# EAGLE library part ERM8-040-01-D-RA (library con-samtec-er8)
ERM8 Series - Male Right Angle Edge Mount
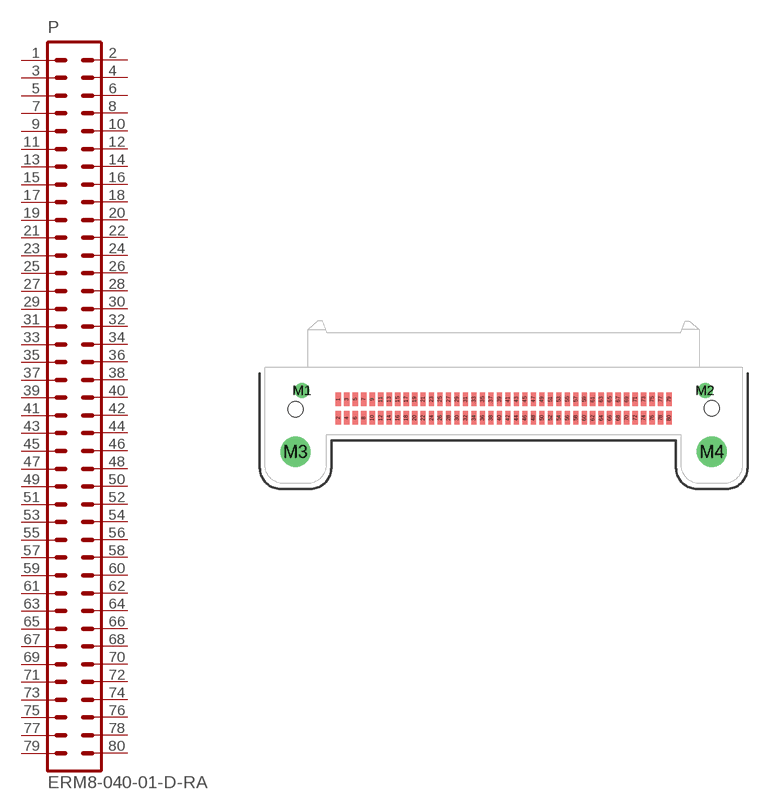
[diagram p24: symbol with the pads of ERM8-040-01-D-RA; footprint ERM8-040-01-D-RA]

Designator prefix P

## ERM8-040-01-D-RA  [ERM8-040-01-D-RA]
1  1  pas
2  2  pas
3  3  pas
4  4  pas
5  5  pas
6  6  pas
7  7  pas
8  8  pas
9  9  pas
10  10  pas
11  11  pas
12  12  pas
13  13  pas
14  14  pas
15  15  pas
16  16  pas
17  17  pas
18  18  pas
19  19  pas
20  20  pas
21  21  pas
22  22  pas
23  23  pas
24  24  pas
25  25  pas
26  26  pas
27  27  pas
28  28  pas
29  29  pas
30  30  pas
31  31  pas
32  32  pas
33  33  pas
34  34  pas
35  35  pas
36  36  pas
37  37  pas
38  38  pas
39  39  pas
40  40  pas
41  41  pas
42  42  pas
43  43  pas
44  44  pas
45  45  pas
46  46  pas
47  47  pas
48  48  pas
49  49  pas
50  50  pas
51  51  pas
52  52  pas
53  53  pas
54  54  pas
55  55  pas
56  56  pas
57  57  pas
58  58  pas
59  59  pas
60  60  pas
61  61  pas
62  62  pas
63  63  pas
64  64  pas
65  65  pas
66  66  pas
67  67  pas
68  68  pas
69  69  pas
70  70  pas
71  71  pas
72  72  pas
73  73  pas
74  74  pas
75  75  pas
76  76  pas
77  77  pas
78  78  pas
79  79  pas
80  80  pas

## Footprint ERM8-040-01-D-RA (pad centres in mm)
0.8mm Edge Rate Terminal Assembly MALE, Right Angle Double Row, 40 Position
smd 0.5 x 1.25: 1 -15.6,0.875; 2 -15.6,-0.875; 3 -14.8,0.875; 4 -14.8,-0.875; 5 -14,0.875; 6 -14,-0.875; 7 -13.2,0.875; 8 -13.2,-0.875; 9 -12.4,0.875; 10 -12.4,-0.875; 11 -11.6,0.875; 12 -11.6,-0.875; 13 -10.8,0.875; 14 -10.8,-0.875; 15 -10,0.875; 16 -10,-0.875; 17 -9.2,0.875; 18 -9.2,-0.875; 19 -8.4,0.875; 20 -8.4,-0.875; 21 -7.6,0.875; 22 -7.6,-0.875; 23 -6.8,0.875; 24 -6.8,-0.875; 25 -6,0.875; 26 -6,-0.875; 27 -5.2,0.875; 28 -5.2,-0.875; 29 -4.4,0.875; 30 -4.4,-0.875; 31 -3.6,0.875; 32 -3.6,-0.875; 33 -2.8,0.875; 34 -2.8,-0.875; 35 -2,0.875; 36 -2,-0.875; 37 -1.2,0.875; 38 -1.2,-0.875; 39 -0.4,0.875; 40 -0.4,-0.875; 41 0.4,0.875; 42 0.4,-0.875; 43 1.2,0.875; 44 1.2,-0.875; 45 2,0.875; 46 2,-0.875; 47 2.8,0.875; 48 2.8,-0.875; 49 3.6,0.875; 50 3.6,-0.875; 51 4.4,0.875; 52 4.4,-0.875; 53 5.2,0.875; 54 5.2,-0.875; 55 6,0.875; 56 6,-0.875; 57 6.8,0.875; 58 6.8,-0.875; 59 7.6,0.875; 60 7.6,-0.875; 61 8.4,0.875; 62 8.4,-0.875; 63 9.2,0.875; 64 9.2,-0.875; 65 10,0.875; 66 10,-0.875; 67 10.8,0.875; 68 10.8,-0.875; 69 11.6,0.875; 70 11.6,-0.875; 71 12.4,0.875; 72 12.4,-0.875; 73 13.2,0.875; 74 13.2,-0.875; 75 14,0.875; 76 14,-0.875; 77 14.8,0.875; 78 14.8,-0.875; 79 15.6,0.875; 80 15.6,-0.875
drill 0.7 pad 1.4: M1 -19,1.69; M2 19,1.69
drill 1.91 pad 2.5: M3 -19.625,-4.09; M4 19.625,-4.09
hole 1.45 at -19.625,-0.09
hole 1.45 at 19.625,0